# EAGLE library part TEXAS_RM42L432_LAUNCHPAD_BOOSTER (library RVschwarzenegger_Controller_RevA)
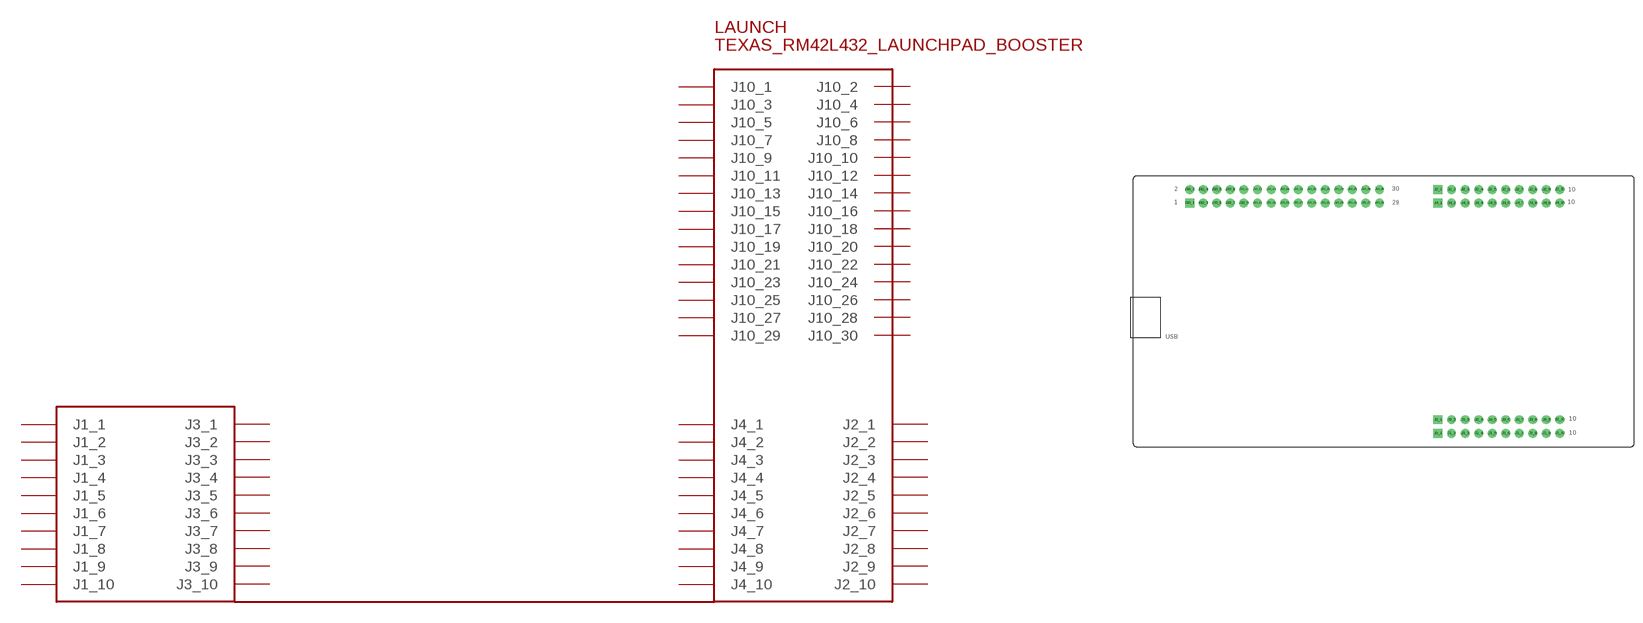
[diagram p8: symbol with the pads of TEXAS_RM42L432_LAUNCHPAD_BOOSTER; footprint TEXAS_RM42L432_LAUNCHPAD_BOOSTER]

Designator prefix LAUNCH

## TEXAS_RM42L432_LAUNCHPAD_BOOSTER  [TEXAS_RM42L432_LAUNCHPAD_BOOSTER]
J1_1  J1_1
J1_2  J1_2
J1_3  J1_3
J1_4  J1_4
J1_5  J1_5
J1_6  J1_6
J1_7  J1_7
J1_8  J1_8
J1_9  J1_9
J1_10  J1_10
J2_1  J2_1
J2_2  J2_2
J2_3  J2_3
J2_4  J2_4
J2_5  J2_5
J2_6  J2_6
J2_7  J2_7
J2_8  J2_8
J2_9  J2_9
J2_10  J2_10
J3_1  J3_1
J3_2  J3_2
J3_3  J3_3
J3_4  J3_4
J3_5  J3_5
J3_6  J3_6
J3_7  J3_7
J3_8  J3_8
J3_9  J3_9
J3_10  J3_10
J4_1  J4_1
J4_2  J4_2
J4_3  J4_3
J4_4  J4_4
J4_5  J4_5
J4_6  J4_6
J4_7  J4_7
J4_8  J4_8
J4_9  J4_9
J4_10  J4_10
J10_1  J10_1
J10_2  J10_2
J10_3  J10_3
J10_4  J10_4
J10_5  J10_5
J10_6  J10_6
J10_7  J10_7
J10_8  J10_8
J10_9  J10_9
J10_10  J10_10
J10_11  J10_11
J10_12  J10_12
J10_13  J10_13
J10_14  J10_14
J10_15  J10_15
J10_16  J10_16
J10_17  J10_17
J10_18  J10_18
J10_19  J10_19
J10_20  J10_20
J10_21  J10_21
J10_22  J10_22
J10_23  J10_23
J10_24  J10_24
J10_25  J10_25
J10_26  J10_26
J10_27  J10_27
J10_28  J10_28
J10_29  J10_29
J10_30  J10_30

## Footprint TEXAS_RM42L432_LAUNCHPAD_BOOSTER (pad centres in mm)
drill 1 pad 1.676 square: J1_1 57.15,2.54; J2_1 57.15,48.26; J3_1 57.15,5.08; J4_1 57.15,45.72; J10_1 10.639,45.72
drill 1 pad 1.676: J1_2 59.69,2.54; J1_3 62.23,2.54; J1_4 64.77,2.54; J1_5 67.31,2.54; J1_6 69.85,2.54; J1_7 72.39,2.54; J1_8 74.93,2.54; J1_9 77.47,2.54; J1_10 80.01,2.54; J2_2 59.69,48.26; J2_3 62.23,48.26; J2_4 64.77,48.26; J2_5 67.31,48.26; J2_6 69.85,48.26; J2_7 72.39,48.26; J2_8 74.93,48.26; J2_9 77.47,48.26; J2_10 80.01,48.26; J3_2 59.69,5.08; J3_3 62.23,5.08; J3_4 64.77,5.08; J3_5 67.31,5.08; J3_6 69.85,5.08; J3_7 72.39,5.08; J3_8 74.93,5.08; J3_9 77.47,5.08; J3_10 80.01,5.08; J4_2 59.69,45.72; J4_3 62.23,45.72; J4_4 64.77,45.72; J4_5 67.31,45.72; J4_6 69.85,45.72; J4_7 72.39,45.72; J4_8 74.93,45.72; J4_9 77.47,45.72; J4_10 80.01,45.72; J10_2 10.639,48.26; J10_3 13.179,45.72; J10_4 13.179,48.26; J10_5 15.719,45.72; J10_6 15.719,48.26; J10_7 18.259,45.72; J10_8 18.259,48.26; J10_9 20.799,45.72; J10_10 20.799,48.26; J10_11 23.339,45.72; J10_12 23.339,48.26; J10_13 25.879,45.72; J10_14 25.879,48.26; J10_15 28.419,45.72; J10_16 28.419,48.26; J10_17 30.959,45.72; J10_18 30.959,48.26; J10_19 33.499,45.72; J10_20 33.499,48.26; J10_21 36.039,45.72; J10_22 36.039,48.26; J10_23 38.579,45.72; J10_24 38.579,48.26; J10_25 41.119,45.72; J10_26 41.119,48.26; J10_27 43.659,45.72; J10_28 43.659,48.26; J10_29 46.199,45.72; J10_30 46.199,48.26